# EAGLE library part TPS63070X (library U-TI-TPS63070X-SPS-buck-boost)
TPS63070 2-V to 16-V Buck-Boost Converter With 3.6-A Switch Current
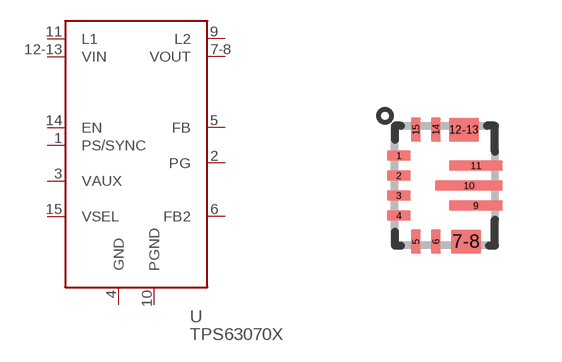
[diagram p0: symbol with the pads of TPS63070X; footprint TPS63070X]

Designator prefix U

## TPS63070X  [TPS63070X]
1  PS/SYNC  in
2  PG  oc
3  VAUX  out
4  GND  pwr
5  FB  pas
6  FB2  pas
7-8  VOUT  pwr
9  L2  pas
10  PGND  pwr
11  L1  pas
12-13  VIN  pwr
14  EN  in
15  VSEL  in

## Footprint TPS63070X (pad centres in mm)
smd 0.6 x 0.25: 1 -1.15,0.75; 2 -1.15,0.25; 3 -1.15,-0.25; 4 -1.15,-0.75
smd 0.25 x 0.6: 5 -0.725,-1.4; 6 -0.225,-1.4; 14 -0.225,1.4; 15 -0.725,1.4
smd 0.75 x 0.6: 7-8 0.525,-1.4; 12-13 0.475,1.4
smd 1.35 x 0.25: 9 0.775,-0.5; 11 0.775,0.5
smd 1.7 x 0.25: 10 0.6,0